# EAGLE library part MC1496 (library MC1496)
MC1496
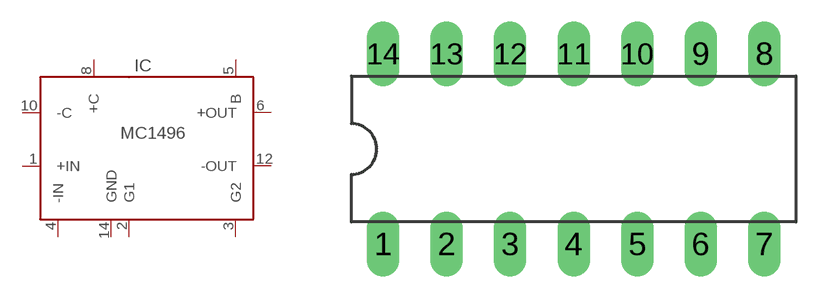
[diagram p0: symbol with the pads of MC1496; footprint MC1496]

Designator prefix IC

## MC1496  [MC1496]
1  +IN  in
2  G1  in
3  G2  in
4  -IN  in
5  B  in
6  +OUT  out
8  +C  in
10  -C  in
12  -OUT  out
14  GND  in

## Footprint MC1496 (pad centres in mm)
drill 0.8 long: 1 -7.62,-3.81; 2 -5.08,-3.81; 3 -2.54,-3.81; 4 0,-3.81; 5 2.54,-3.81; 6 5.08,-3.81; 7 7.62,-3.81; 8 7.62,3.81; 9 5.08,3.81; 10 2.54,3.81; 11 0,3.81; 12 -2.54,3.81; 13 -5.08,3.81; 14 -7.62,3.81